# EAGLE library part PCT2075 (library CubeSat3)
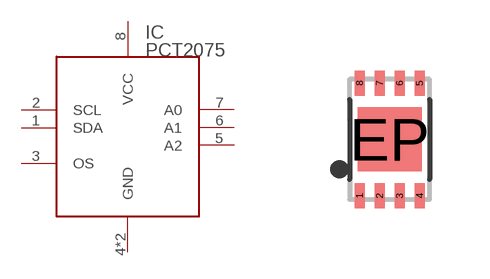
[diagram p6: symbol with the pads of HWSON8; footprint HWSON8]

Designator prefix IC

## PCT2075TP (FARNELL: 2396745)  [HWSON8]
1  SDA  oc
2  SCL  in
3  OS  oc
4  GND  pwr
5  A2  in
6  A1  in
7  A0  in
8  VCC  pwr
EP  GND  pwr

## Footprint HWSON8 (pad centres in mm)
smd 0.25 x 0.625: 1 -0.75,-1.41; 2 -0.25,-1.41; 3 0.25,-1.41; 4 0.75,-1.41; 5 0.75,1.41; 6 0.25,1.41; 7 -0.25,1.41; 8 -0.75,1.41
smd 1.6 x 1.6: EP 0,0